# EAGLE library part LPC213X_ (library lpc213x)
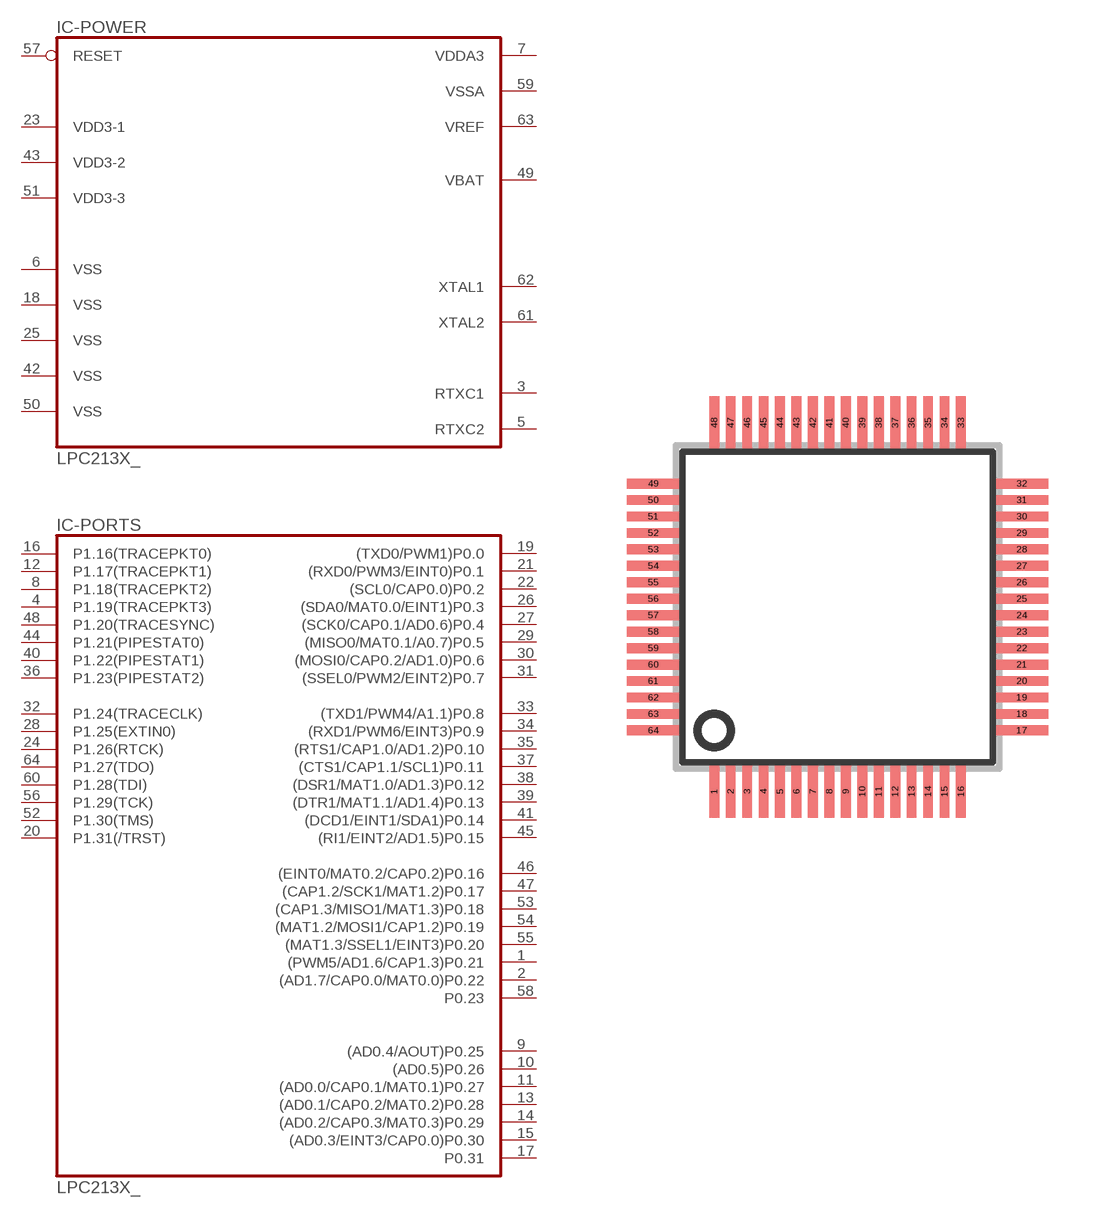
[diagram p1: symbol with the pads of SQFP-S-10X10-64; footprint SQFP-S-10X10-64]

Designator prefix IC; gates -POWER=LPC213X-POWER -PORTS=LPC213X-PORTS

## LPC213X_  [SQFP-S-10X10-64]
1  -PORTS:(PWM5/AD1.6/CAP1.3)P0.21
2  -PORTS:(AD1.7/CAP0.0/MAT0.0)P0.22
3  -POWER:RTXC1  in
4  -PORTS:P1.19(TRACEPKT3)
5  -POWER:RTXC2  out
6  -POWER:VSS  pwr
7  -POWER:VDDA3  pwr
8  -PORTS:P1.18(TRACEPKT2)
9  -PORTS:(AD0.4/AOUT)P0.25
10  -PORTS:(AD0.5)P0.26
11  -PORTS:(AD0.0/CAP0.1/MAT0.1)P0.27
12  -PORTS:P1.17(TRACEPKT1)
13  -PORTS:(AD0.1/CAP0.2/MAT0.2)P0.28
14  -PORTS:(AD0.2/CAP0.3/MAT0.3)P0.29
15  -PORTS:(AD0.3/EINT3/CAP0.0)P0.30
16  -PORTS:P1.16(TRACEPKT0)
17  -PORTS:P0.31  out
18  -POWER:VSS  pwr
19  -PORTS:(TXD0/PWM1)P0.0
20  -PORTS:P1.31(/TRST)
21  -PORTS:(RXD0/PWM3/EINT0)P0.1
22  -PORTS:(SCL0/CAP0.0)P0.2
23  -POWER:VDD3-1  pwr
24  -PORTS:P1.26(RTCK)
25  -POWER:VSS  pwr
26  -PORTS:(SDA0/MAT0.0/EINT1)P0.3
27  -PORTS:(SCK0/CAP0.1/AD0.6)P0.4
28  -PORTS:P1.25(EXTIN0)
29  -PORTS:(MISO0/MAT0.1/A0.7)P0.5
30  -PORTS:(MOSI0/CAP0.2/AD1.0)P0.6
31  -PORTS:(SSEL0/PWM2/EINT2)P0.7
32  -PORTS:P1.24(TRACECLK)
33  -PORTS:(TXD1/PWM4/A1.1)P0.8
34  -PORTS:(RXD1/PWM6/EINT3)P0.9
35  -PORTS:(RTS1/CAP1.0/AD1.2)P0.10
36  -PORTS:P1.23(PIPESTAT2)
37  -PORTS:(CTS1/CAP1.1/SCL1)P0.11
38  -PORTS:(DSR1/MAT1.0/AD1.3)P0.12
39  -PORTS:(DTR1/MAT1.1/AD1.4)P0.13
40  -PORTS:P1.22(PIPESTAT1)
41  -PORTS:(DCD1/EINT1/SDA1)P0.14
42  -POWER:VSS  pwr
43  -POWER:VDD3-2  pwr
44  -PORTS:P1.21(PIPESTAT0)
45  -PORTS:(RI1/EINT2/AD1.5)P0.15
46  -PORTS:(EINT0/MAT0.2/CAP0.2)P0.16
47  -PORTS:(CAP1.2/SCK1/MAT1.2)P0.17
48  -PORTS:P1.20(TRACESYNC)
49  -POWER:VBAT  pwr
50  -POWER:VSS  pwr
51  -POWER:VDD3-3  pwr
52  -PORTS:P1.30(TMS)
53  -PORTS:(CAP1.3/MISO1/MAT1.3)P0.18
54  -PORTS:(MAT1.2/MOSI1/CAP1.2)P0.19
55  -PORTS:(MAT1.3/SSEL1/EINT3)P0.20
56  -PORTS:P1.29(TCK)
57  -POWER:RESET  in
58  -PORTS:P0.23
59  -POWER:VSSA  pwr
60  -PORTS:P1.28(TDI)
61  -POWER:XTAL2  out
62  -POWER:XTAL1  in
63  -POWER:VREF  in
64  -PORTS:P1.27(TDO)

## Footprint SQFP-S-10X10-64 (pad centres in mm)
QFP64 shrink quad flat pack, square
smd 0.3 x 1.6: 1 -3.75,-5.6; 2 -3.25,-5.6; 3 -2.75,-5.6; 4 -2.25,-5.6; 5 -1.75,-5.6; 6 -1.25,-5.6; 7 -0.75,-5.6; 8 -0.25,-5.6; 9 0.25,-5.6; 10 0.75,-5.6; 11 1.25,-5.6; 12 1.75,-5.6; 13 2.25,-5.6; 14 2.75,-5.6; 15 3.25,-5.6; 16 3.75,-5.6; 33 3.75,5.6; 34 3.25,5.6; 35 2.75,5.6; 36 2.25,5.6; 37 1.75,5.6; 38 1.25,5.6; 39 0.75,5.6; 40 0.25,5.6; 41 -0.25,5.6; 42 -0.75,5.6; 43 -1.25,5.6; 44 -1.75,5.6; 45 -2.25,5.6; 46 -2.75,5.6; 47 -3.25,5.6; 48 -3.75,5.6
smd 1.6 x 0.3: 17 5.6,-3.75; 18 5.6,-3.25; 19 5.6,-2.75; 20 5.6,-2.25; 21 5.6,-1.75; 22 5.6,-1.25; 23 5.6,-0.75; 24 5.6,-0.25; 25 5.6,0.25; 26 5.6,0.75; 27 5.6,1.25; 28 5.6,1.75; 29 5.6,2.25; 30 5.6,2.75; 31 5.6,3.25; 32 5.6,3.75; 49 -5.6,3.75; 50 -5.6,3.25; 51 -5.6,2.75; 52 -5.6,2.25; 53 -5.6,1.75; 54 -5.6,1.25; 55 -5.6,0.75; 56 -5.6,0.25; 57 -5.6,-0.25; 58 -5.6,-0.75; 59 -5.6,-1.25; 60 -5.6,-1.75; 61 -5.6,-2.25; 62 -5.6,-2.75; 63 -5.6,-3.25; 64 -5.6,-3.75